# EAGLE library part KX134 (library TMP36)
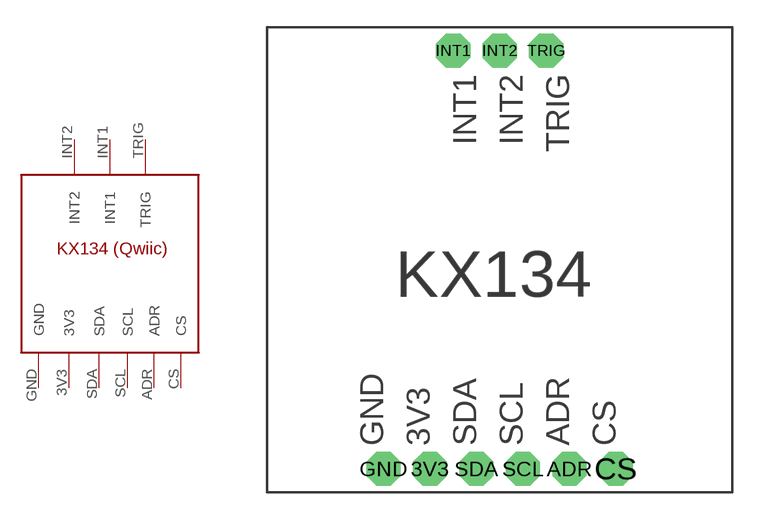
[diagram p0: symbol with the pads of KX134; footprint KX134]

Designator prefix -

## KX134  [KX134]
3V3  3V3
ADR  ADR
CS  CS
GND  GND
INT1  INT1
INT2  INT2
SCL  SCL
SDA  SDA
TRIG  TRIG

## Footprint KX134 (pad centres in mm)
drill 1.245 octagon: 3V3 8.89,1.27; ADR 16.51,1.27; CS 19.05,1.27; GND 6.35,1.27; INT1 10.16,24.13; INT2 12.7,24.13; SCL 13.97,1.27; SDA 11.43,1.27; TRIG 15.24,24.13